# Altium integrated library QFN-STM_Adapter.IntLib: 1 symbol
Pins are listed as number, name and electrical type; pins without a type are passive.

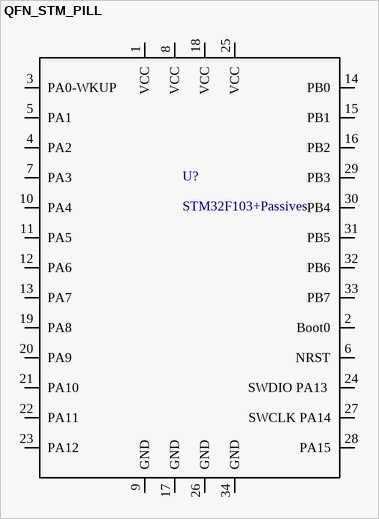
[diagram p0: symbol QFN_STM_PILL]

## QFN_STM_PILL
designator U?, comment STM32F103+Passives
footprint QFN_STM_PILL
pins: 1 VCC, 2 Boot0, 3 PA0-WKUP, 4 PA2, 5 PA1, 6 NRST, 7 PA3, 8 VCC, 9 GND, 10 PA4, 11 PA5, 12 PA6, 13 PA7, 14 PB0, 15 PB1, 16 PB2, 17 GND, 18 VCC, 19 PA8, 20 PA9, 21 PA10, 22 PA11, 23 PA12, 24 SWDIO PA13 , 25 VCC, 26 GND, 27 SWCLK PA14, 28 PA15, 29 PB3, 30 PB4, 31 PB5, 32 PB6, 33 PB7, 34 GND